# Altium schematic symbol library BMS AFE Rev 4.SchLib: 2 symbols
Pins are listed as number, name and electrical type; pins without a type are passive.

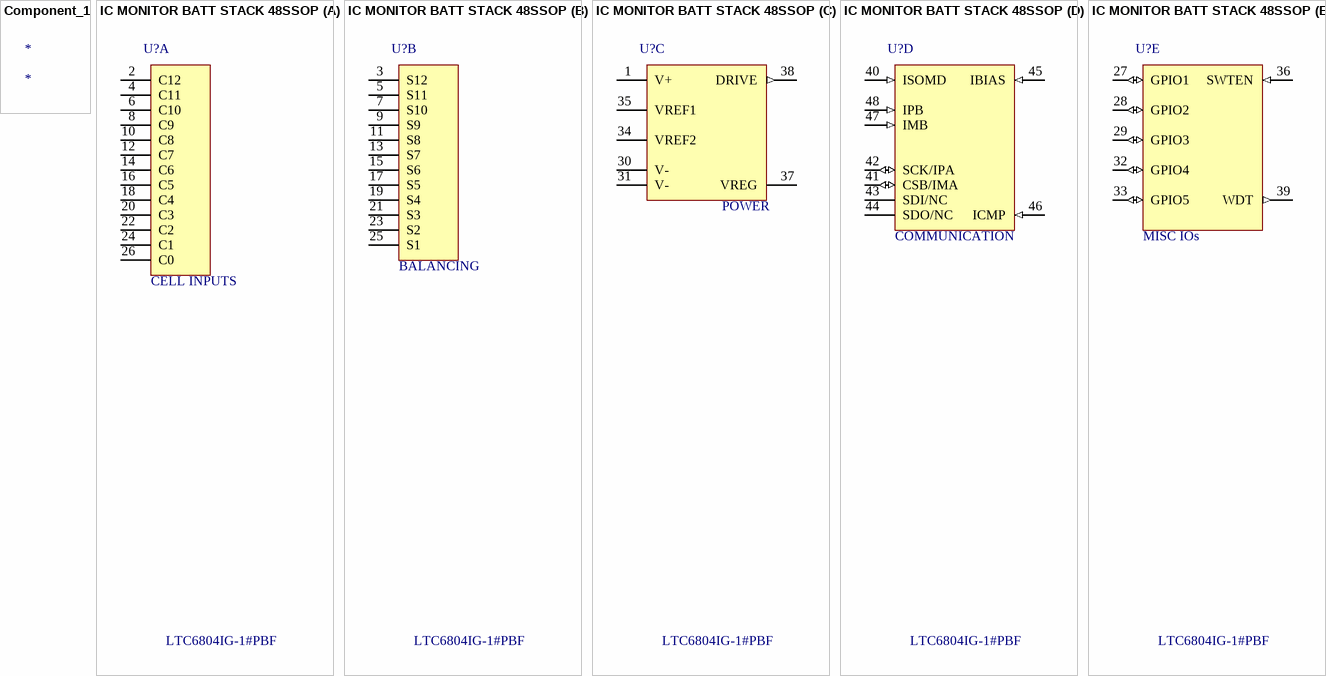
[diagram p0: symbols Component_1 to IC MONITOR BATT STACK 48SSOP]

## Component_1
designator *

## IC MONITOR BATT STACK 48SSOP
designator U?  Manufacturer Part Number 1: LTC6804IG-1#PBF
Battery Battery Monitor IC Multi-Chemistry 48-SSOP; Manufacturer 1: Linear Technology; Number of Cells: 1 ~ 12; Fault Protection: Over/Under Voltage; Interface: I²C, SPI; Supplier 1: Digi-Key; Supplier Part Number 1: LTC6804IG-1#PBF-ND; Packaging: Tube; Part Status: Active; Function: Battery Monitor; Battery Chemistry: Multi-Chemistry; Operating Temperature: -40°C ~ 85°C (TA); Package / Case: 48-FSOP (0.209", 5.30mm Width); Supplier Device Package: 48-SSOP; ComponentLink1URL: http://www.linear.com/docs/43171; ComponentLink1Description: http://www.linear.com/docs/43171
footprint SSOP50P780X200-48N (SSOP, 48-Leads, Body 12.80x5.30mm, Pitch 0.50mm, IPC Medium Density)
part A pins: 2 C12, 4 C11, 6 C10, 8 C9, 10 C8, 12 C7, 14 C6, 16 C5, 18 C4, 20 C3, 22 C2, 24 C1, 26 C0
part B pins: 3 S12, 5 S11, 7 S10, 9 S9, 11 S8, 13 S7, 15 S6, 17 S5, 19 S4, 21 S3, 23 S2, 25 S1
part C pins: 1 V+ (power), 30 V- (power), 31 V- (power), 34 VREF2 (power), 35 VREF1 (power), 37 VREG (power), 38 DRIVE (out)
part D pins: 40 ISOMD (in), 41 CSB/IMA (io), 42 SCK/IPA (io), 43 SDI/NC, 44 SDO/NC, 45 IBIAS (in), 46 ICMP (in), 47 IMB (in), 48 IPB (in)
part E pins: 27 GPIO1 (io), 28 GPIO2 (io), 29 GPIO3 (io), 32 GPIO4 (io), 33 GPIO5 (io), 36 SWTEN (in), 39 WDT (out)
part A text: CELL INPUTS
part B text: BALANCING
part C text: POWER
part D text: COMMUNICATION
part E text: MISC IOs